# EAGLE library part AUIRF7737L2 (library PEAC)
N channel MOSFET from IRF
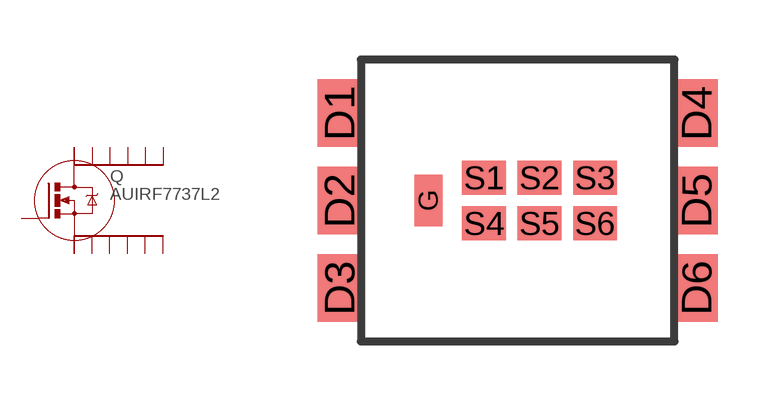
[diagram p17: symbol with the pads of DIRECT_FET_L6; footprint DIRECT_FET_L6]

Designator prefix Q

## AUIRF7737L2  [DIRECT_FET_L6]
D1  D  pas
D2  D  pas
D3  D  pas
D4  D  pas
D5  D  pas
D6  D  pas
G  G  pas
S1  S  pas
S2  S  pas
S3  S  pas
S4  S  pas
S5  S  pas
S6  S  pas

## Footprint DIRECT_FET_L6 (pad centres in mm)
smd 1.1 x 1.7: D1 -4.35,2.2; D2 -4.35,0; D3 -4.35,-2.2; D4 4.65,2.2; D5 4.65,0; D6 4.65,-2.2
smd 0.7 x 1.3: G -2.1,0
smd 1.1 x 0.85: S1 -0.7,0.575; S2 0.7,0.575; S3 2.1,0.575; S4 -0.7,-0.575; S5 0.7,-0.575; S6 2.1,-0.575